# Altium footprint library robby.PcbLib: 21 footprints (part 2 of 2)
Each footprint in its own frame and in the unit in brackets; x right, y up, seen from the top. Pads: shape width x height; smd on the part's side, far side on the other; paste and mask are expansions set on the pad; w line width, h text height; cw(c..) or ccw(c..) is an arc to the next point about the centre after c.
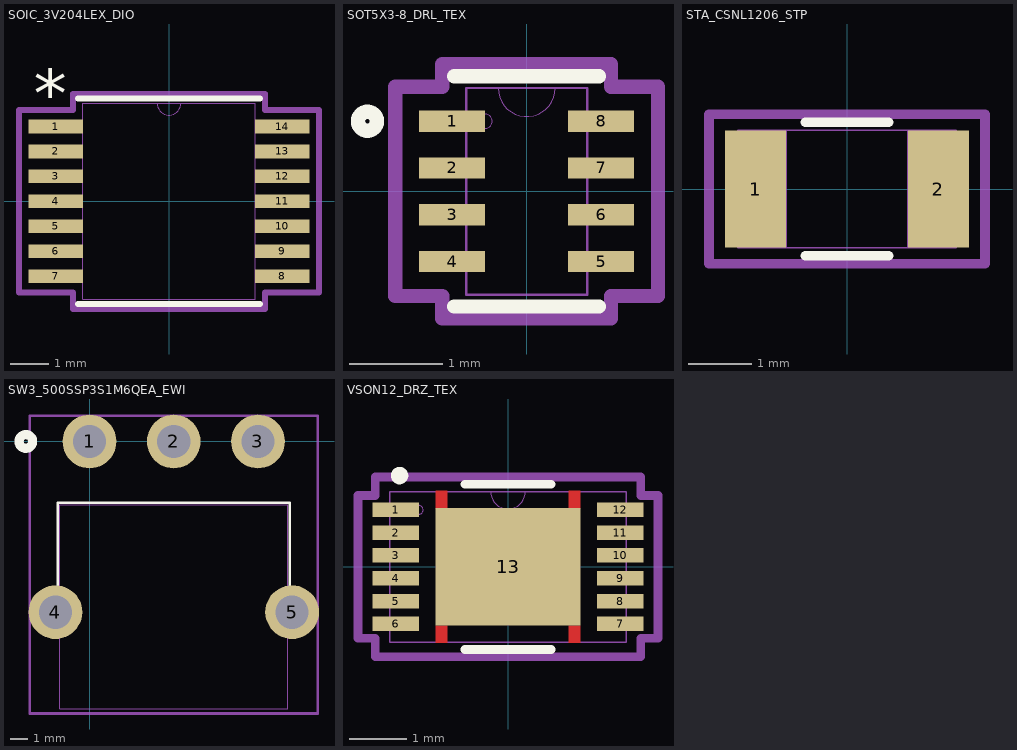
[diagram p1: the footprints below, top view; thin cyan lines are the x and y axes]

## SOIC_3V204LEX_DIO [mil]
pads (14):
  rect 55.5x14 smd paste+0 mask+0: 1(-116.25,76.77) 2(-116.25,51.18) 3(-116.25,25.59) 4(-116.25,0) 5(-116.25,-25.59) 6(-116.25,-51.18) 7(-116.25,-76.77) 8(116.25,-76.77) 9(116.25,-51.18) 10(116.25,-25.59) 11(116.25,0) 12(116.25,25.59) 13(116.25,51.18) 14(116.25,76.77)
Top Overlay:
  lines w6: -93.5,-105.5 93.5,-105.5 ; -93.5,105.5 93.5,105.5
  text "*" at -138.75,85.77 h50
Mechanical 13:
  lines w0: -12,100.5 ccw(c0,100.5) 12,100.5
  lines w1: -130,-82.77 -88.5,-82.77 -88.5,-70.77 -130,-70.77 -130,-82.77 ; -130,-57.18 -88.5,-57.18 -88.5,-45.18 -130,-45.18 -130,-57.18 ; -130,-31.59 -88.5,-31.59 -88.5,-19.59 -130,-19.59 -130,-31.59 ; -130,-6 -88.5,-6 -88.5,6 -130,6 -130,-6 ; -130,19.59 -88.5,19.59 -88.5,31.59 -130,31.59 -130,19.59 ; -130,45.18 -88.5,45.18 -88.5,57.18 -130,57.18 -130,45.18 ; -130,70.77 -88.5,70.77 -88.5,82.77 -130,82.77 -130,70.77 ; -88.5,-100.5 -88.5,100.5 88.5,100.5 88.5,-100.5 -88.5,-100.5 ; 88.5,-82.77 130,-82.77 130,-70.77 88.5,-70.77 88.5,-82.77 ; 88.5,-57.18 130,-57.18 130,-45.18 88.5,-45.18 88.5,-57.18 ; 88.5,-31.59 130,-31.59 130,-19.59 88.5,-19.59 88.5,-31.59 ; 88.5,-6 130,-6 130,6 88.5,6 88.5,-6 ; 88.5,19.59 130,19.59 130,31.59 88.5,31.59 88.5,19.59 ; 88.5,45.18 130,45.18 130,57.18 88.5,57.18 88.5,45.18 ; 88.5,70.77 130,70.77 130,82.77 88.5,82.77 88.5,70.77
  text "*" at -86,47.5 h50
Mechanical 15:
  lines w6: -154,-93.77 -98.5,-93.77 -98.5,-110.5 98.5,-110.5 98.5,-93.77 154,-93.77 154,93.77 98.5,93.77 98.5,110.5 -98.5,110.5 -98.5,93.77 -154,93.77 -154,-93.77
3D body "SOIC_3V204LEX_DIO.step": height 47.09, standoff 0, extent -130,-100.51 130,100.51

## SOT5X3-8_DRL_TEX [mil]
pads (8):
  rect 27.81x9.03 smd paste+0 mask+0: 1(-31.41,29.54) 2(-31.41,9.85) 3(-31.41,-9.85) 4(-31.41,-29.54) 5(31.41,-29.54) 6(31.41,-9.85) 7(31.41,9.85) 8(31.41,29.54)
Top Overlay:
  circle w6: c-67,29.54 r4
  lines w6: -30.5,-48.5 30.5,-48.5 ; -30.5,48.5 30.5,48.5
Mechanical 13:
  circle w0: c-17.5,29.54 r3
  lines w0: -12,43.5 ccw(c0,43.5) 12,43.5
  lines w1: -25.5,-43.5 -25.5,43.5 25.5,43.5 25.5,-43.5 -25.5,-43.5
Mechanical 15:
  lines w6: -55.31,-44.05 -35.5,-44.05 -35.5,-53.5 35.5,-53.5 35.5,-44.05 55.31,-44.05 55.31,44.05 35.5,44.05 35.5,53.5 -35.5,53.5 -35.5,44.05 -55.31,44.05 -55.31,-44.05
3D body "SOT5X3-8_DRL_TEX.step": height 24.09, standoff 0, extent -33.5,-43.5 33.5,43.5

## STA_CSNL1206_STP [mil]
pads (2):
  rect 38x73 smd paste+0 mask+0: 1(-57,0) 2(57,0)
Top Overlay:
  lines w6: -25.89,-41.5 25.89,-41.5 ; -25.89,41.5 25.89,41.5
Mechanical 13:
  lines w1: -68,-36.5 -68,36.5 ; -68,-36.5 68,-36.5 ; -68,-36.5 -38,-36.5 -38,36.5 -68,36.5 ; -68,-36.5 -68,36.5 ; -68,36.5 68,36.5 ; 68,-36.5 68,36.5 ; 68,-36.5 68,36.5 ; 68,-36.5 38,-36.5 38,36.5 68,36.5
Mechanical 15:
  lines w6: -86,-46.5 86,-46.5 86,46.5 -86,46.5 -86,-46.5
3D body "STA_CSNL1206_STP.step": height 35, standoff 0, extent -67.99,-36.5 67.99,36.5

## SW3_500SSP3S1M6QEA_EWI [mm]
pads (5):
  round 3 hole 1.854: 1(0,0) 2(4.7,0) 3(9.4,0) 4(-1.904,-9.525) 5(11.304,-9.525)
Top Overlay:
  circle w0.508: c-3.555,0 r0.381
  lines w0.152: -1.777,-8.016 -1.777,-3.416 11.177,-3.416 11.177,-8.016
Bottom Overlay:
  circle w0.508: c-3.555,0 r0.381
Mechanical 13:
  lines w0.025: -1.65,-14.922 -1.65,-3.543 11.05,-3.543 11.05,-14.922 -1.65,-14.922
Mechanical 15:
  lines w0.152: -3.339,-15.176 12.739,-15.176 12.739,1.435 -3.339,1.435 -3.339,-15.176
3D body "1101A2HQEA.stp": height 6.7, standoff -3.07, extent -2.085,-17.69 11.485,0.71

## VSON12_DRZ_TEX [mil]
pads (13):
  rect 32x10 smd paste+0 mask+0: 1(-77.5,39.37) 2(-77.5,23.62) 3(-77.5,7.87) 4(-77.5,-7.87) 5(-77.5,-23.62) 6(-77.5,-39.37) 7(77.5,-39.37) 8(77.5,-23.62) 9(77.5,-7.87) 10(77.5,7.87) 11(77.5,23.62) 12(77.5,39.37)
  rect 100x81 smd paste+0 mask+0: 13(0,0)
Top Layer:
  region: -42,40.5 -50,40.5 -50,52.5 -42,52.5
  region: 42,40.5 50,40.5 50,52.5 42,52.5
  region: -42,-40.5 -50,-40.5 -50,-52.5 -42,-52.5
  region: 42,-40.5 50,-40.5 50,-52.5 42,-52.5
Top Overlay:
  circle w6: c-74.8,62.99 r3
  lines w6: -29.7,-57 29.7,-57 ; -29.7,57 29.7,57
Top Paste:
  region: -42,40.5 -50,40.5 -50,52.5 -42,52.5
  region: 42,40.5 50,40.5 50,52.5 42,52.5
  region: -42,-40.5 -50,-40.5 -50,-52.5 -42,-52.5
  region: 42,-40.5 50,-40.5 50,-52.5 42,-52.5
Top Solder:
  region: -42,40.5 -50,40.5 -50,52.5 -42,52.5
  region: 42,40.5 50,40.5 50,52.5 42,52.5
  region: -42,-40.5 -50,-40.5 -50,-52.5 -42,-52.5
  region: 42,-40.5 50,-40.5 50,-52.5 42,-52.5
Mechanical 13:
  circle w0: c-61.5,39.37 r3
  lines w0: -12,52 ccw(c0,52) 12,52
  lines w1: -81.5,-52 81.5,-52 81.5,52 -81.5,52 -81.5,-52
Mechanical 15:
  lines w6: -103.5,-49.24 -103.5,49.24 -91.5,49.24 -91.5,62 91.5,62 91.5,49.24 103.5,49.24 103.5,-49.24 91.5,-49.24 91.5,-62 -91.5,-62 -91.5,-49.24 -103.5,-49.24
3D body "VSON12_DRZ_TEX.step": height 32.09, standoff 0, extent -81.5,-52.52 81.5,52.52